# EAGLE library part LB1836M (library bt_motordriver)
LB1836 Motor Driver/Controller The LB1836M is a low-saturation two-channel bidirectional motor driver IC for use in low-voltage applications. The LB1836M is a bipolar stepper-motor driver IC that is ideal for use in printers, FDDs, cameras and other portable devices. Features Low voltage operation (2.5V min) Low saturation voltage (upper transistor + lower transistor residual voltage ; 0.40V typ at 400mA). Parallel connection (Upper transistor + lower transistor residual voltage ; 0.5V typ at 800mA). Separate logic power supply and motor power supply Brake function Spark killer diodes built in Thermal shutdown circuit built in Compact package (14-pin MFP) Datasheet.pdf <http://www.onsemi.com/pub_link/Collateral/ANDLB1836M-D.PDF>
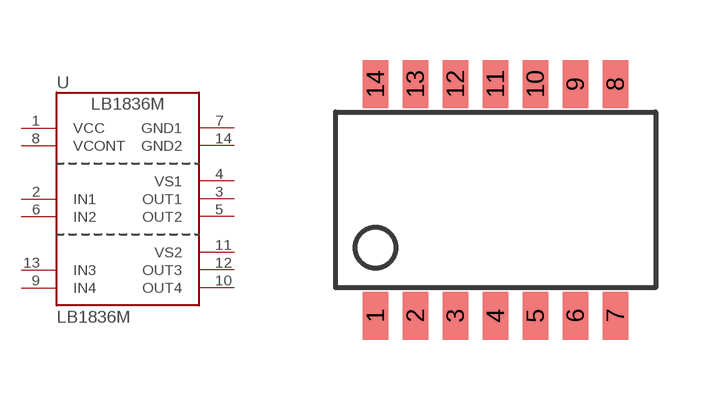
[diagram p4: symbol with the pads of LSOP14; footprint LSOP14]

Designator prefix U

## LB1836M  [LSOP14]
1  VCC
2  IN1
3  OUT1
4  VS1
5  OUT2
6  IN2
7  GND1
8  VCONT
9  IN4
10  OUT4
11  VS2
12  OUT3
13  IN3
14  GND2

## Footprint LSOP14 (pad centres in mm)
smd 0.64 x 1.2: 1 -3,-2.9; 2 -2,-2.9; 3 -1,-2.9; 4 0,-2.9; 5 1,-2.9; 6 2,-2.9; 7 3,-2.9; 8 3,2.9; 9 2,2.9; 10 1,2.9; 11 0,2.9; 12 -1,2.9; 13 -2,2.9; 14 -3,2.9